# Altium schematic symbol library Battery.SchLib: 3 symbols
Pins are listed as number, name and electrical type; pins without a type are passive.

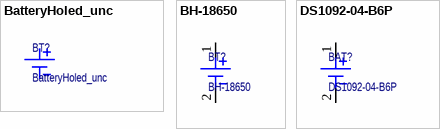
[diagram p0: symbols BatteryHoled_unc to DS1092-04-B6P]

## BatteryHoled_unc
designator BT?  (mechanical)
footprint 2AAHLDR (Battery holder 2xAA)

## BH-18650
designator BT?
footprint BH18650
pins: 1 +, 2 -

## DS1092-04-B6P
designator BAT?
footprint DS1092-04-B6P (DS1092-04-B6P battery holder)
pins: 1 +, 2 -